# EAGLE library part ADUM3401 (library lib_stankus)
Analog Devices ADUM3401 isolator
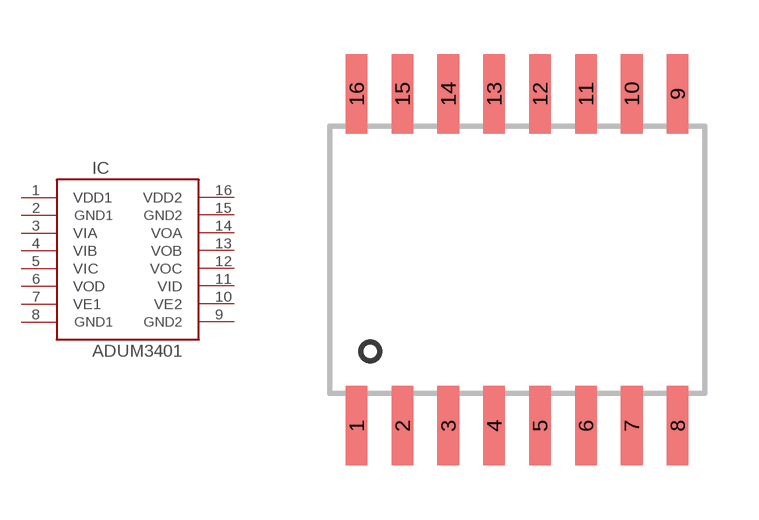
[diagram p18: symbol with the pads of SO16W; footprint SO16W]

Designator prefix IC

## ADUM3401-SO16W  [SO16W]
1  VDD1  pas
2  GND1  pas
3  VIA  pas
4  VIB  pas
5  VIC  pas
6  VOD  pas
7  VE1  pas
8  GND1  pas
9  GND2  pas
10  VE2  pas
11  VID  pas
12  VOC  pas
13  VOB  pas
14  VOA  pas
15  GND2  pas
16  VDD2  pas

## Footprint SO16W (pad centres in mm)
SO16W
smd 0.6 x 2.2: 1 -4.445,-4.6; 2 -3.175,-4.6; 3 -1.905,-4.6; 4 -0.635,-4.6; 5 0.635,-4.6; 6 1.905,-4.6; 7 3.175,-4.6; 8 4.445,-4.6; 9 4.445,4.6; 10 3.175,4.6; 11 1.905,4.6; 12 0.635,4.6; 13 -0.635,4.6; 14 -1.905,4.6; 15 -3.175,4.6; 16 -4.445,4.6